# EAGLE library part DRV-ULN2003 (library eagleLib v2)
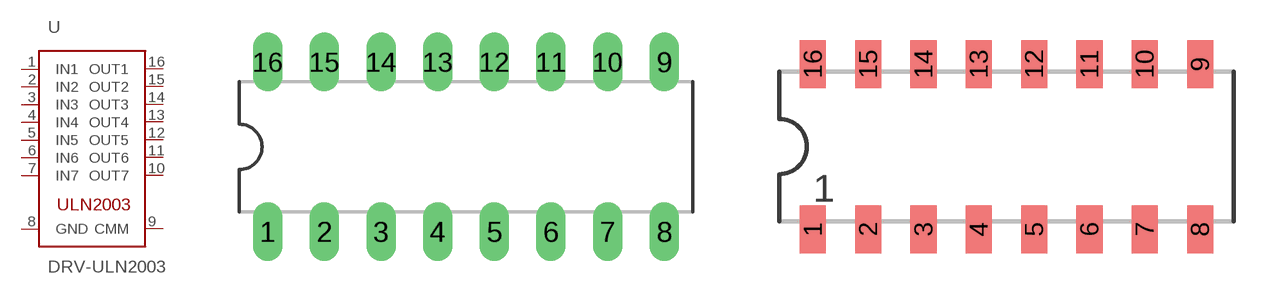
[diagram p39: symbol with the pads of DIL16; footprints DIL16, DIP16]

Designator prefix -

## DRV-ULN2003-D  [DIL16]
1  IN1
2  IN2
3  IN3
4  IN4
5  IN5
6  IN6
7  IN7
8  GND
9  CMM
10  OUT7
11  OUT6
12  OUT5
13  OUT4
14  OUT3
15  OUT2
16  OUT1

## DRV-ULN2003-DP  [DIP16]
Pads as for DIL16

## DRV-ULN2003-S  [SO16]
Pads as for DIL16

## Footprint DIL16 (pad centres in mm)
Dual In Line Package
drill 0.813 long: 1 -8.89,-3.81; 2 -6.35,-3.81; 3 -3.81,-3.81; 4 -1.27,-3.81; 5 1.27,-3.81; 6 3.81,-3.81; 7 6.35,-3.81; 8 8.89,-3.81; 9 8.89,3.81; 10 6.35,3.81; 11 3.81,3.81; 12 1.27,3.81; 13 -1.27,3.81; 14 -3.81,3.81; 15 -6.35,3.81; 16 -8.89,3.81

## Footprint DIP16 (pad centres in mm)
SMD DIL16 dual in line package
smd 1.2 x 2.2: 1 -8.89,-3.8; 2 -6.35,-3.8; 3 -3.81,-3.8; 4 -1.27,-3.8; 5 1.27,-3.8; 6 3.81,-3.8; 7 6.35,-3.8; 8 8.89,-3.8; 9 8.89,3.8; 10 6.35,3.8; 11 3.81,3.8; 12 1.27,3.8; 13 -1.27,3.8; 14 -3.81,3.8; 15 -6.35,3.8; 16 -8.89,3.8

## Footprint SO16 (pad centres in mm)
SMALL OUTLINE INTEGRATED CIRCUIT body 3.9 mm/JEDEC MS-012AC
smd 0.6 x 2.2: 1 -4.445,-2.6; 2 -3.175,-2.6; 3 -1.905,-2.6; 4 -0.635,-2.6; 5 0.635,-2.6; 6 1.905,-2.6; 7 3.175,-2.6; 8 4.445,-2.6; 9 4.445,2.6; 10 3.175,2.6; 11 1.905,2.6; 12 0.635,2.6; 13 -0.635,2.6; 14 -1.905,2.6; 15 -3.175,2.6; 16 -4.445,2.6